# Altium footprint library SON50P400X80_HS-13N.PcbLib: 1 footprints
Each footprint in its own frame and in the unit in brackets; x right, y up, seen from the top. Pads: shape width x height; smd on the part's side, far side on the other; paste and mask are expansions set on the pad; w line width, h text height; cw(c..) or ccw(c..) is an arc to the next point about the centre after c.
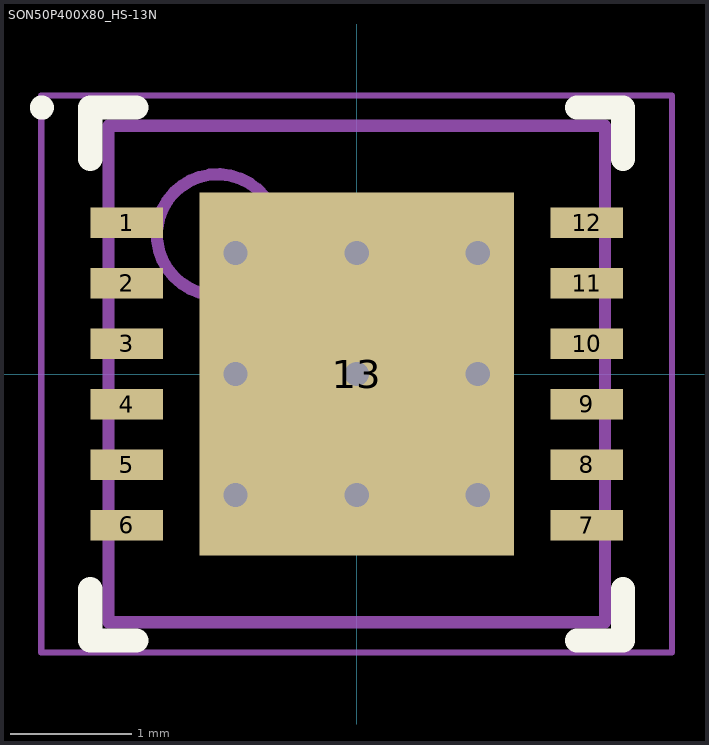
[diagram p0: the footprint, top view; thin cyan lines are the x and y axes]

## SON50P400X80_HS-13N [mm] "SON, 12-Leads, Body 4,00x4,00mm, Pitch 0,50mm, Thermal Pad 3,00x2,60mm, IPC Medium Density"
height 0.8
pads (13):
  rect 0.6x0.25 smd: 1(-1.9,1.25) 2(-1.9,0.75) 3(-1.9,0.25) 4(-1.9,-0.25) 5(-1.9,-0.75) 6(-1.9,-1.25) 7(1.9,-1.25) 8(1.9,-0.75) 9(1.9,-0.25) 10(1.9,0.25) 11(1.9,0.75) 12(1.9,1.25)
  rect 2.6x3 smd paste-1.3: 13(0,0)
via -1,1 diameter 0.5 hole 0.2
via 0,1 diameter 0.5 hole 0.2
via 1,1 diameter 0.5 hole 0.2
via -1,0 diameter 0.5 hole 0.2
via 0,0 diameter 0.5 hole 0.2
via 1,0 diameter 0.5 hole 0.2
via -1,-1 diameter 0.5 hole 0.2
via 0,-1 diameter 0.5 hole 0.2
via 1,-1 diameter 0.5 hole 0.2
Top Overlay:
  circle w0.1: c-2.6,2.2 r0.05
  lines w0.2: -2.2,-1.775 -2.2,-2.2 -1.82,-2.2 ; -2.2,1.775 -2.2,2.2 -1.82,2.2 ; 1.82,-2.2 2.2,-2.2 2.2,-1.775 ; 1.82,2.2 2.2,2.2 2.2,1.775
Top Paste:
  rectangle: -1.2,0.1 -0.1,1.4
  rectangle: -1.2,-1.4 -0.1,-0.1
  rectangle: 0.1,0.1 1.2,1.4
  rectangle: 0.1,-1.4 1.2,-0.1
Mechanical 13:
  circle w0.1: c-1.15,1.15 r0.5
  lines w0.1: -2.05,-2.05 -2.05,2.05 2.05,2.05 2.05,-2.05 -2.05,-2.05
Mechanical 15:
  lines w0.05: -2.605,-2.3 -2.605,2.3 2.605,2.3 2.605,-2.3 -2.605,-2.3
  lines w0.1: -0.5,0 0.5,0 ; 0,-0.5 0,0.5
3D body "SON50P400X80_HS-13N.step": height 0.8, standoff 0, extent -2.06,-2.05 2.06,2.05